# Altium integrated library KyleCustomModels.IntLib: 10 symbols
Pins are listed as number, name and electrical type; pins without a type are passive.

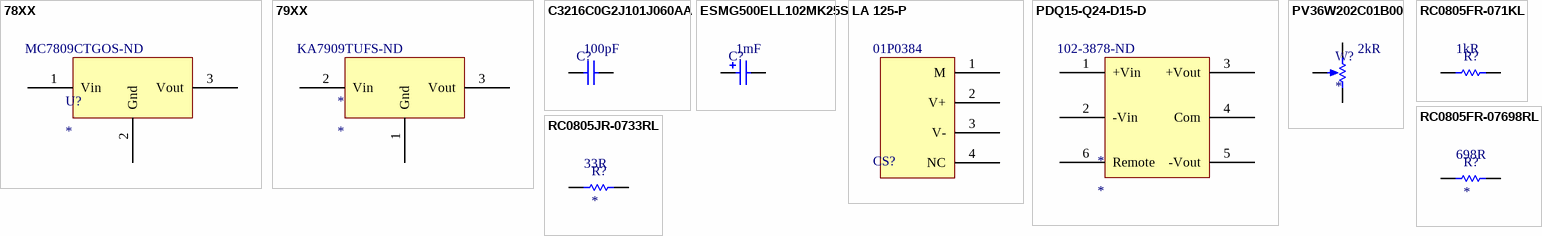
[diagram p0: symbols 78XX to RC0805JR-0733RL]

## 78XX
designator U?  Supplier Part Number 1: MC7809CTGOS-ND
IC REG LINEAR 9V 1A TO220AB; Manufacturer: ON Semiconductor; Manufacturer Part Number: MC7809CTG; Number of Outputs: 1; Dropout Voltage: 2V; Max Input Voltage: 35V; Min Input Voltage: 11V; Polarity: Positive; Quiescent Current: 8mA; Accuracy: 4%; Tolerance: 5%; Power Supply Rejection Ratio (PSRR): 61dB; Supplier 1: Digi-Key; Stock 1: 1049; Pricing 1: 1=0.64, 10=0.548, 100=0.4091, 500=0.32142, 1000=0.24837 (USD); Mount: Through Hole; Case/Package: TO-220; Number of Pins: 3; Weight: 0.01lb; Contact Plating: Tin,Matte; Min Operating Temperature: 0°C; Max Operating Temperature: 125°C; Output Voltage: 9V; Packaging: Rail/Tube; Output Current: 1A; Current Rating: 1A; Package Quantity: 50; Max Output Current: 1A; Nominal Output Voltage: 9V; Number of Regulators: 1; Min Output Voltage: 9V; Output Voltage Accuracy: 4%; Operating Supply Voltage: 35V; Length: 0.404inch; Height: 0.62inch; Width: 0.19inch; Radiation Hardening: No; REACH SVHC: No SVHC; Lead Free: Lead Free; Halogen Free: Halogen Free; ComponentLink1URL: https://datasheet.ciiva.com/16394/mc7800-d-16394474.pdf; ComponentLink1Description: https://datasheet.ciiva.com/16394/mc7800-d-16394474.pdf; ComponentLink2URL: https://datasheet.ciiva.com/14149/igspannungsregler-mc78xx-en-14149791.pdf; ComponentLink2Description: https://datasheet.ciiva.com/14149/igspannungsregler-mc78xx-en-14149791.pdf; ComponentLink3URL: https://datasheet.ciiva.com/8073/76526-8073704.pdf; ComponentLink3Description: https://datasheet.ciiva.com/8073/76526-8073704.pdf; ComponentLink4URL: https://datasheet.ciiva.com/25979/mc7800-d-25979775.pdf; ComponentLink4Description: https://datasheet.ciiva.com/25979/mc7800-d-25979775.pdf; ComponentLink5URL: https://datasheet.ciiva.com/2043/mc7800-d-2043830.pdf; ComponentLink5Description: https://datasheet.ciiva.com/2043/mc7800-d-2043830.pdf; ComponentLink6URL: https://datasheet.ciiva.com/26903/mc7809ctg-26903014.pdf; ComponentLink6Description: https://datasheet.ciiva.com/26903/mc7809ctg-26903014.pdf
footprint TO-220
pins: 1 Vin, 2 Gnd, 3 Vout

## 79XX
designator *  Supplier Part Number 1: KA7909TUFS-ND
IC REG LINEAR -9V 1A TO220-3; Manufacturer: ON Semiconductor / Fairchild; Manufacturer Part Number: KA7909TU; Number of Outputs: 1; Dropout Voltage: 2V; Max Input Voltage: -35V; Min Input Voltage: -11.5V; Polarity: Negative; Quiescent Current: 6mA; Output Voltage Accuracy: 4%; Tolerance: 5%; Power Supply Rejection Ratio (PSRR): 60dB; Supplier 1: Digi-Key; Stock 1: 820; Pricing 1: 1=0.66, 10=0.581, 100=0.4453, 500=0.352, 1000=0.2816 (USD); Mount: Through Hole; Case/Package: TO-220-3; Number of Pins: 3; Weight: 1.8g; Min Operating Temperature: 0°C; Max Operating Temperature: 125°C; Output Voltage: -9V; Packaging: Rail/Tube; Package Quantity: 50; Output Current: 1A; Max Output Current: 1A; Nominal Output Voltage: -9V; Number of Regulators: 1; Min Output Voltage: -9V; Accuracy: 4%; Length: 10mm; Height: 15.95mm; Width: 4.5mm; Radiation Hardening: No; REACH SVHC: No SVHC; Lead Free: Lead Free; ComponentLink1URL: https://datasheet.ciiva.com/14170/zpfairchild-spannungsregler-ka-en-14170555.pdf; ComponentLink1Description: https://datasheet.ciiva.com/14170/zpfairchild-spannungsregler-ka-en-14170555.pdf; ComponentLink2URL: https://datasheet.ciiva.com/26254/ka7924-26254938.pdf; ComponentLink2Description: https://datasheet.ciiva.com/26254/ka7924-26254938.pdf; ComponentLink3URL: https://datasheet.ciiva.com/46425/1855684-46425549.pdf; ComponentLink3Description: https://datasheet.ciiva.com/46425/1855684-46425549.pdf; ComponentLink4URL: https://datasheet.ciiva.com/3224/ka7924-3224893.pdf; ComponentLink4Description: https://datasheet.ciiva.com/3224/ka7924-3224893.pdf; ComponentLink5URL: https://datasheet.ciiva.com/17366/ka7909-17366829.pdf; ComponentLink5Description: https://datasheet.ciiva.com/17366/ka7909-17366829.pdf
footprint TO-220
pins: 1 Gnd, 2 Vin, 3 Vout

## C3216C0G2J101J060AA
designator C?  Capacitance: 100pF  (hidden comment: *)
100pF ±5% 630V C0G, NP0 Ceramic Capacitor -55°C ~ 125°C Surface Mount, MLCC 1206 (3216 Metric) 0.126" L x 0.063" W (3.20mm x 1.60mm); Manufacturer: TDK; Manufacturer Part Number: C3216C0G2J101J060AA; Temperature Coefficient: 30ppm/°C; Supplier 1: Digi-Key; Stock 1: 40000; Pricing 1: 1=0.28, 10=0.19, 100=0.0961, 500=0.06578, 1000=0.05819 (USD); Mount: Surface Mount; Case/Package: 1206; Weight: 0.000571oz; Case Code (Metric): 3216; Case Code (Imperial): 1206; Min Operating Temperature: -55°C; Max Operating Temperature: 125°C; Packaging: Tape and Reel; Tolerance: 5%; Voltage Rating: 630V; Package Quantity: 1; Voltage Rating (DC): 630V; Dielectric: C0G; Termination: SMD/SMT; Voltage: 630V; Length: 3.2mm; Height: 0.6mm; Width: 0.063inch; Thickness: 0.03inch; Depth: 1.6mm; REACH SVHC: No SVHC; Lead Free: Lead Free; ComponentLink1URL: https://datasheet.ciiva.com/24191/c3216c0g2j101j060aa-24191569.pdf; ComponentLink1Description: https://datasheet.ciiva.com/24191/c3216c0g2j101j060aa-24191569.pdf; ComponentLink2URL: https://datasheet.ciiva.com/46384/1484596-46384214.pdf; ComponentLink2Description: https://datasheet.ciiva.com/46384/1484596-46384214.pdf; ComponentLink3URL: https://datasheet.ciiva.com/11788/0900766b80fc5cba-11788154.pdf; ComponentLink3Description: https://datasheet.ciiva.com/11788/0900766b80fc5cba-11788154.pdf; ComponentLink4URL: https://datasheet.ciiva.com/22677/1484596-22677290.pdf; ComponentLink4Description: https://datasheet.ciiva.com/22677/1484596-22677290.pdf; ComponentLink5URL: https://datasheet.ciiva.com/24219/c3216c0g2j101j060aa-264968-24219087.pdf; ComponentLink5Description: https://datasheet.ciiva.com/24219/c3216c0g2j101j060aa-264968-24219087.pdf; Supplier Part Number 1: 445-2336-6-ND
footprint C1206
pins: 1, 2

## ESMG500ELL102MK25S
designator C?  Capacitance: 1mF  (hidden comment: *)
CAP ALUM 1000UF 20% 50V RADIAL; Manufacturer: United Chemi-Con; Manufacturer Part Number: ESMG500ELL102MK25S; Dielectric Material: Aluminium; Ripple Current: 1.34A; Life (Hours): 2000Hour; Supplier 1: Digi-Key; Stock 1: 1677; Pricing 1: 1=1.32, 10=1.043, 100=0.782, 500=0.59084, 1000=0.52133, 2500=0.48657, 5000=0.46919 (USD); Mount: Through Hole; Case/Package: Radial; Min Operating Temperature: -40°C; Max Operating Temperature: 85°C; Package Quantity: 1000; Tolerance: 20%; Packaging: Bulk; Termination: Radial; Voltage Rating (DC): 50V; Diameter: 12.5mm; Height: 25mm; Lead Pitch: 5mm; Height - Seated (Max): 1.043inch; REACH SVHC: Unknown; Lead Free: Lead Free; ComponentLink1URL: https://datasheet.ciiva.com/99/smg-series-rev-i-99589.pdf; ComponentLink1Description: https://datasheet.ciiva.com/99/smg-series-rev-i-99589.pdf; ComponentLink2URL: https://datasheet.ciiva.com/7931/8790-7931258.pdf; ComponentLink2Description: https://datasheet.ciiva.com/7931/8790-7931258.pdf; ComponentLink3URL: https://datasheet.ciiva.com/15951/12cat-db-al-cgieejppdfnamesmg-cgieejppdfnamesmg-15951254.pdf; ComponentLink3Description: https://datasheet.ciiva.com/15951/12cat-db-al-cgieejppdfnamesmg-cgieejppdfnamesmg-15951254.pdf; Supplier Part Number 1: 565-1114-ND; Voltage Rating: 50V
footprint CAP.2/.5 (ESMG500ELL102MK25S)
pins: 1, 2

## LA 125-P
designator CS?  Supplier Part Number 1: 01P0384  (hidden comment: *)
Hall-effect current transducer from LEM; Manufacturer Part Number: LA125-P; Operating Supply Voltage: 15V; Accuracy: 0.8%; Response Time: 1us; Secondary Current: 125mA; Min Supply Voltage (DC): 12V; Max Frequency: 100kHz; Wire/Cable Diameter: 11mm; Supplier 1: Newark; Manufacturer: LEM; Stock 1: 82; Mount: PCB; Case/Package: 125; Min Operating Temperature: -40°C; Max Operating Temperature: 85°C; Max Supply Voltage (DC): 15V; REACH SVHC: No SVHC; ComponentLink1URL: https://datasheet.ciiva.com/3327/la125p-eng-tds-3327505.pdf; ComponentLink1Description: https://datasheet.ciiva.com/3327/la125p-eng-tds-3327505.pdf; ComponentLink2URL: https://datasheet.ciiva.com/1309/51624-1309927.pdf; ComponentLink2Description: https://datasheet.ciiva.com/1309/51624-1309927.pdf
footprint LA 125-P (LEM hall-effect current sensor(footprint))
pins: 1 M, 2 V+, 3 V-, 4 NC

## PDQ15-Q24-D15-D
designator *  Supplier Part Number 1: 102-3878-ND
Isolated DC/DC Converters 15W 9-36Vin +/-15V +/-500mA Iso Reg DIP; Supplier 1: Digi-Key
footprint PDQ15-Q24-D15-D (+/-15V 15W output DC/DC converter)
pins: 1 +Vin (power), 2 -Vin (power), 3 +Vout (power), 4 Com (power), 5 -Vout (power), 6 Remote

## PV36W202C01B00
designator W?  Resistance: 2kR
TRIMMER 2K OHM 0.5W TH; Manufacturer: Bourns; Manufacturer Part Number: PV36W202C01B00; Tolerance: 10%; Number of Turns: 25; Max Power Dissipation: 500mW; Temperature Coefficient: 100ppm/°C; Supplier 1: Digi-Key; Stock 1: 2656; Pricing 1: 1=1.5, 10=1.32, 25=1.188, 50=1.144, 100=1.1, 250=1.034, 500=0.88, 1000=0.814, 5000=0.6688 (USD); Mount: Through Hole; Packaging: Bulk; Termination: PC Pins; Composition: Cermet; Height: 0.394inch; ComponentLink1URL: http://www.bourns.com/docs/Product-Datasheets/pv36.pdf; ComponentLink1Description: http://www.bourns.com/docs/Product-Datasheets/pv36.pdf; ComponentLink2URL: http://www.mouser.com/ds/2/54/v36-907345.pdf; ComponentLink2Description: http://www.mouser.com/ds/2/54/v36-907345.pdf; Supplier Part Number 1: 490-2880-ND
footprint VR5
pins: 1 TOP, 2 BOT, 3 TAP

## RC0805FR-071KL
designator R?  Resistance: 1kR  (hidden comment: *)
RES SMD 1K OHM 1% 1/8W 0805; Manufacturer: Yageo; Manufacturer Part Number: RC0805FR-071KL; Temperature Coefficient: 100ppm/°C; Voltage Rating (DC): 150V; Power Rating: 125mW; Supplier 1: Digi-Key; Stock 1: 5400247; Pricing 1: 1=0.1, 10=0.042, 100=0.0169, 1000=0.00759, 2500=0.00659 (USD); Case/Package: 0805; Number of Pins: 2; Case Code (Metric): 2012; Case Code (Imperial): 0805; Min Operating Temperature: -55°C; Max Operating Temperature: 155°C; Tolerance: 1%; Packaging: Tape and Reel; Composition: Thick Film; Package Quantity: 1; Voltage Rating: 150V; Number of Terminations: 2; Termination: SMD/SMT; Military Standard: Not; Max Power Dissipation: 125mW; Length: 0.079inch; Height: 0.024inch; Width: 0.049inch; Depth: 1.25mm; REACH SVHC: Unknown; Lead Free: Lead Free; ComponentLink1URL: https://datasheet.ciiva.com/2456/pyu-r-int-thick-7-2456976.pdf; ComponentLink1Description: https://datasheet.ciiva.com/2456/pyu-r-int-thick-7-2456976.pdf; ComponentLink2URL: https://datasheet.ciiva.com/2456/pyu-r-int-thick-7-2456977.pdf; ComponentLink2Description: https://datasheet.ciiva.com/2456/pyu-r-int-thick-7-2456977.pdf; ComponentLink3URL: https://datasheet.ciiva.com/11819/0900766b8106beab-11819814.pdf; ComponentLink3Description: https://datasheet.ciiva.com/11819/0900766b8106beab-11819814.pdf; ComponentLink4URL: https://datasheet.ciiva.com/7941/1686128-7941719.pdf; ComponentLink4Description: https://datasheet.ciiva.com/7941/1686128-7941719.pdf; ComponentLink5URL: https://datasheet.ciiva.com/16850/rc0805-16850409.pdf; ComponentLink5Description: https://datasheet.ciiva.com/16850/rc0805-16850409.pdf; ComponentLink6URL: https://datasheet.ciiva.com/46385/444164-46385020.pdf; ComponentLink6Description: https://datasheet.ciiva.com/46385/444164-46385020.pdf; ComponentLink7URL: https://datasheet.ciiva.com/2456/pyu-r-int-thick-7-2456975.pdf; ComponentLink7Description: https://datasheet.ciiva.com/2456/pyu-r-int-thick-7-2456975.pdf; Supplier Part Number 1: 311-1.00KCRCT-ND
footprint R0805
pins: 1, 2

## RC0805FR-07698RL
designator R?  Resistance: 698R
RES SMD 698 OHM 1% 1/8W 0805; Manufacturer: Yageo; Manufacturer Part Number: RC0805FR-07698RL; Max Power Dissipation: 125mW; Temperature Coefficient: 100ppm/°C; Voltage Rating (DC): 150V; Supplier 1: Digi-Key; Stock 1: 175243; Pricing 1: 1=0.1, 10=0.042, 100=0.0169, 1000=0.00759, 2500=0.00659 (USD); Case/Package: 0805; Case Code (Metric): 2012; Case Code (Imperial): 0805; Contact Plating: Tin,Matte; Min Operating Temperature: -55°C; Max Operating Temperature: 155°C; Package Quantity: 1; Tolerance: 1%; Packaging: Tape and Reel; Composition: Thick Film; Number of Terminations: 2; Power Rating: 125mW; Voltage Rating: 150V; Termination: SMD/SMT; Military Standard: Not; Length: 2mm; Height: 0.024inch; Width: 0.049inch; Depth: 1.25mm; Radiation Hardening: No; Lead Free: Lead Free; ComponentLink1URL: https://datasheet.ciiva.com/2458/pyu-r-int-thick-7-2458144.pdf; ComponentLink1Description: https://datasheet.ciiva.com/2458/pyu-r-int-thick-7-2458144.pdf; ComponentLink2URL: https://datasheet.ciiva.com/12561/rc0805-257173-12561189.pdf; ComponentLink2Description: https://datasheet.ciiva.com/12561/rc0805-257173-12561189.pdf; ComponentLink3URL: https://datasheet.ciiva.com/17055/rc0805-17055621.pdf; ComponentLink3Description: https://datasheet.ciiva.com/17055/rc0805-17055621.pdf; ComponentLink4URL: https://datasheet.ciiva.com/2458/pyu-r-int-thick-7-2458142.pdf; ComponentLink4Description: https://datasheet.ciiva.com/2458/pyu-r-int-thick-7-2458142.pdf; ComponentLink5URL: https://datasheet.ciiva.com/2458/pyu-r-int-thick-7-2458143.pdf; ComponentLink5Description: https://datasheet.ciiva.com/2458/pyu-r-int-thick-7-2458143.pdf; Supplier Part Number 1: 311-698CRCT-ND
footprint R0805
pins: 1, 2

## RC0805JR-0733RL
designator R?  Resistance: 33R
YAGEO (PHYCOMP)         RC0805JR-0733RL             SMD Chip Resistor, Thick Film, 33 ohm, 150 V, 0805 [2012 Metric], 250 mW,  5%, RC Series; Temperature Coefficient: 100ppm/°C; Power Rating: 125mW; Voltage Rating: 150V; Supplier 1: Digi-Key; Manufacturer: Yageo; Manufacturer Part Number: RC0805JR-0733RL; Stock 1: 49512; Pricing 1: 1=0.1, 10=0.036, 100=0.0145, 1000=0.00652, 2500=0.00566 (USD); Case/Package: 0805; Weight: 0.000194oz; Contact Plating: Tin,Lead,Matte; Case Code (Imperial): 0805; Case Code (Metric): 2012; Min Operating Temperature: -55°C; Max Operating Temperature: 155°C; Tolerance: 5%; Packaging: Tape and Reel; Composition: Thick Film; Termination: SMD/SMT; Military Standard: Not; Length: 2mm; Height: 0.5mm; Width: 1.25mm; Depth: 1.25mm; Radiation Hardening: No; Lead Free: Lead Free; REACH SVHC: Unknown; ComponentLink1URL: https://datasheet.ciiva.com/17053/rc0805-17053447.pdf; ComponentLink1Description: https://datasheet.ciiva.com/17053/rc0805-17053447.pdf; ComponentLink2URL: https://datasheet.ciiva.com/7941/442941-7941947.pdf; ComponentLink2Description: https://datasheet.ciiva.com/7941/442941-7941947.pdf; ComponentLink3URL: https://datasheet.ciiva.com/7941/442941-7941948.pdf; ComponentLink3Description: https://datasheet.ciiva.com/7941/442941-7941948.pdf; Supplier Part Number 1: 311-33ARCT-ND
footprint R0805
pins: 1, 2